# Altium footprint library LDO_TI_LP3985_SOT23-5.PcbLib: 1 footprints
Each footprint in its own frame and in the unit in brackets; x right, y up, seen from the top. Pads: shape width x height; smd on the part's side, far side on the other; paste and mask are expansions set on the pad; w line width, h text height; cw(c..) or ccw(c..) is an arc to the next point about the centre after c.
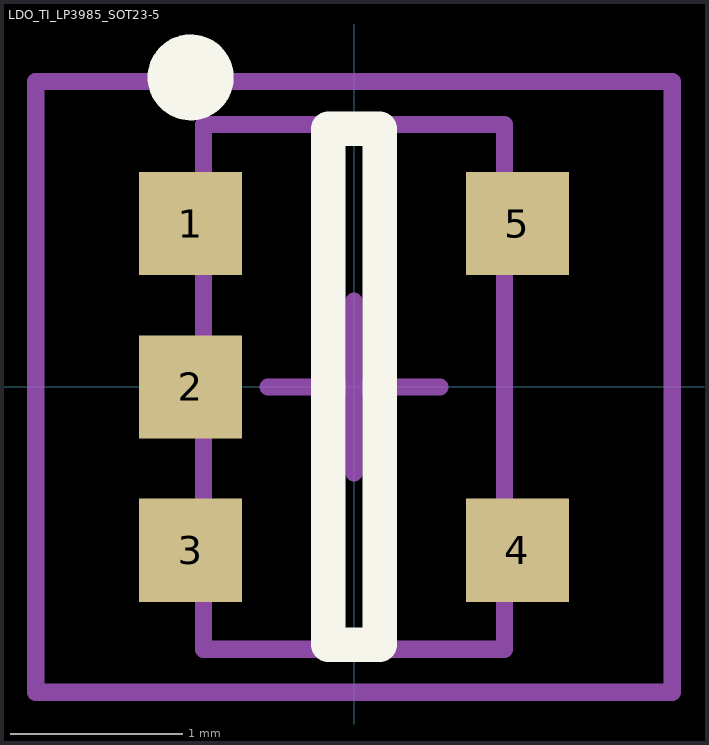
[diagram p0: the footprint, top view; thin cyan lines are the x and y axes]

## LDO_TI_LP3985_SOT23-5 [mm] "LDO_TI_LP3985,150mA,CMOS"
height 1.45
pads (5):
  rect 0.6x0.6 smd: 1(-0.95,0.95) 2(-0.95,0) 3(-0.95,-0.95) 4(0.95,-0.95) 5(0.95,0.95)
Top Overlay:
  circle w0.25: c-0.95,1.8 r0.125
  lines w0.2: -0.15,-1.5 -0.15,1.5 0.15,1.5 0.15,-1.5 -0.15,-1.5
Mechanical 13:
  lines w0.1: -0.875,-1.525 0.875,-1.525 0.875,1.525 -0.875,1.525 -0.875,-1.525
Mechanical 15:
  lines w0.1: -0.5,0 0.5,0 ; 0,-0.5 0,0.5 ; -1.85,-1.775 1.85,-1.775 1.85,1.775 -1.85,1.775 -1.85,-1.775
3D body: height 1.45, standoff 0, extent -0.875,-1.525 0.875,1.525